# Altium integrated library TI Amplifiers and Linear Operational Amplifier High Speed.IntLib: 1100 symbols (part 41 of 44)
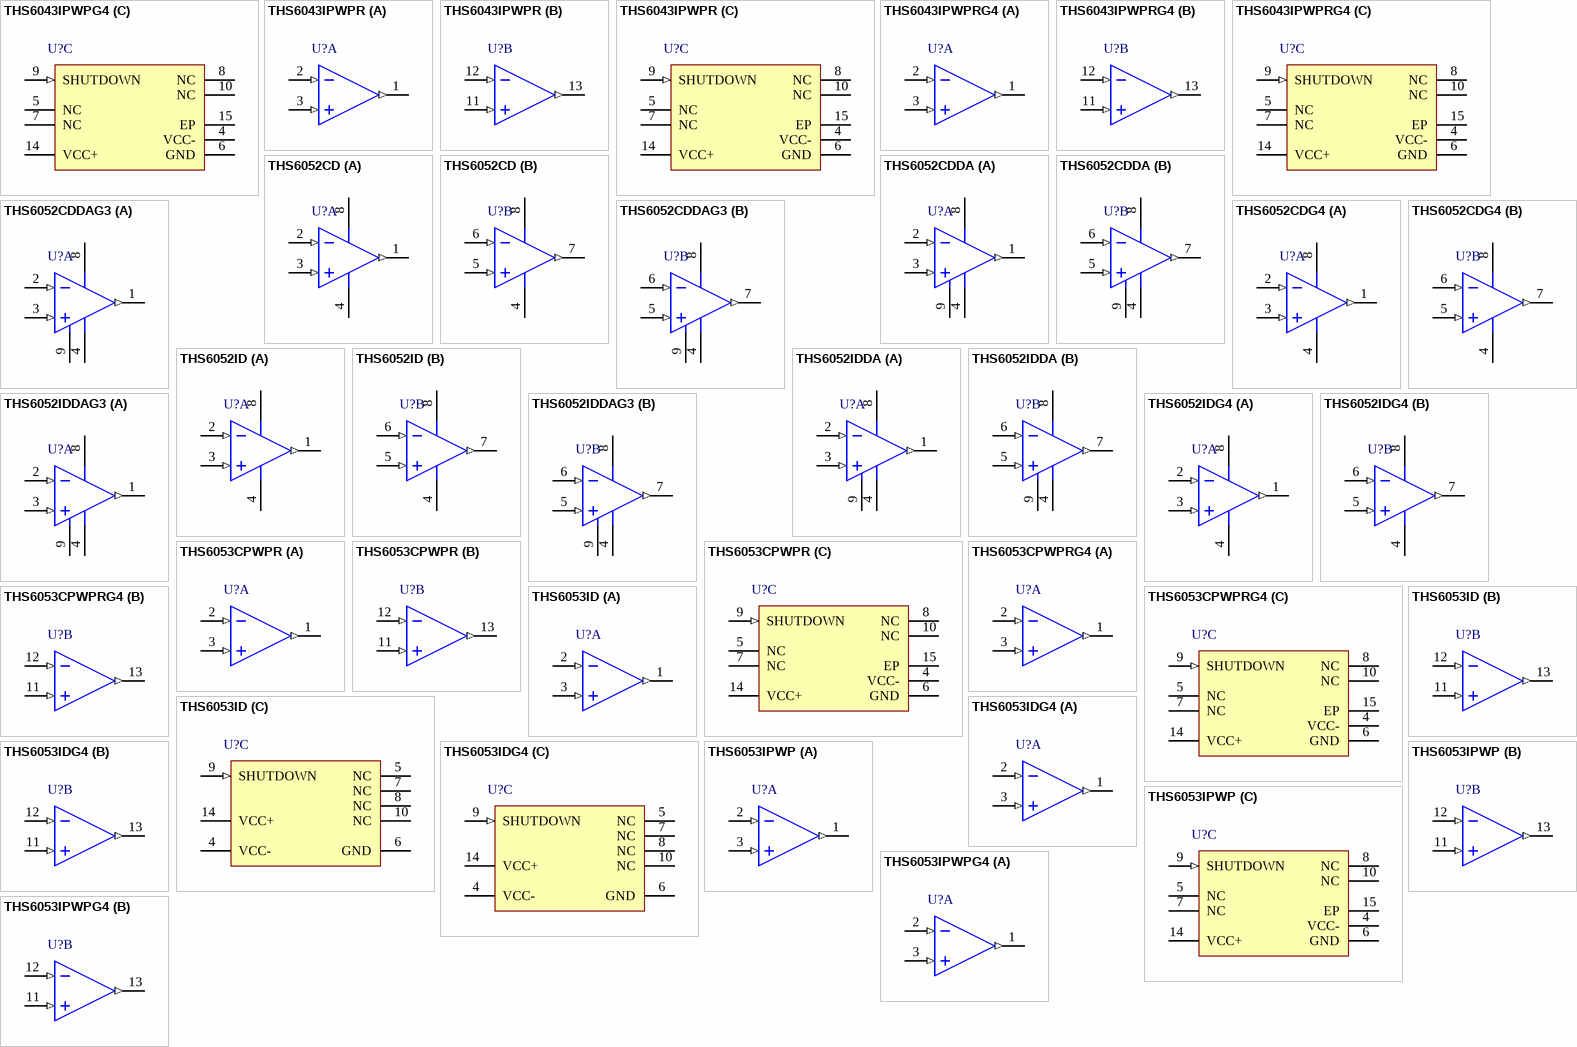
[diagram p91: symbols THS6043IPWPG4 to THS6053IPWPG4]

## THS6053ID
designator U?
175 mA, +/-12 V ADSL CPE Line Driver with Shutdown, 10 to 30 V, -40 to 85 degC, 14-pin SOIC (D14), Green (RoHS & no Sb/Br); Manufacturer: Texas Instruments; PartNumber: THS6053ID; Acl, min stable gain(V/V): 1; BW @ Acl(MHz): 170; Iib(Max)(nA): 12000; Io(Typ)(mA): 175; Number of Channels: 2; Slew Rate(Typ)(V/us): 1200; Sub Family: High Output Current Amplifier (>=50mA), High Speed Amplifier (>=50MHz), High Supply Voltage Amplifier (>=30V); THD (Fc is 1 MHz)(Typ)(dB): -85; Vio(Max)(mV): 15; Vn at Flatband(Typ)(nV/rtHz): 2.1; Vs(Max)(V): 30; Vs(Min)(V): 10; DatasheetVersion: SLOS293D; PackageVersion: 4040047-5/M, 06/2011; PackageReference: D14; PackageDescription: 14-Pin Plastic Small Outline, Body 8.65 x 3.9 mm, Pitch 1.27 mm; Supplier 1: Digi-Key; Supplier Part Number 1: 296-12318-5-ND; Supplier 2: Mouser; Supplier Part Number 2: 595-THS6053ID; Eco-Plan: Green (RoHS & no Sb/Br); Mounting Technology: Surface Mount; Code_JEDEC: MS-012; ComponentLink1Description: Manufacturer URL; ComponentLink1URL: http://www.ti.com/; ComponentLink2Description: Datasheet; ComponentLink2URL: http://www.ti.com/general/docs/lit/getliterature.tsp?genericPartNumber=THS6053&fileType=pdf; ComponentLink3Description: Package Specification; ComponentLink3URL: http://www.ti.com/lit/ml/mpds177g/mpds177g.pdf
footprint TI-D14_N (SOIC, 14-Leads, Body 8.65x3.9mm, Pitch 1.27mm, IPC Medium Density)
footprint TI-D14_L (SOIC, 14-Leads, Body 8.65x3.9mm, Pitch 1.27mm, IPC High Density)
footprint TI-D14_M (SOIC, 14-Leads, Body 8.65x3.9mm, Pitch 1.27mm, IPC Low Density)
part A pins: 1 OUT D1 (out), 2 IN D1- (in), 3 IN D1+ (in)
part B pins: 11 IN D2+ (in), 12 IN D2- (in), 13 OUT D2 (out)
part C pins: 4 VCC- (power), 5 NC, 6 GND (power), 7 NC, 8 NC, 9 SHUTDOWN (in), 10 NC, 14 VCC+ (power)

## THS6053IDG4
designator U?
175 mA, +/-12 V ADSL CPE Line Driver with Shutdown, 10 to 30 V, -40 to 85 degC, 14-pin SOIC (D14), Green (RoHS & no Sb/Br); Manufacturer: Texas Instruments; PartNumber: THS6053IDG4; Acl, min stable gain(V/V): 1; BW @ Acl(MHz): 170; Iib(Max)(nA): 12000; Io(Typ)(mA): 175; Number of Channels: 2; Slew Rate(Typ)(V/us): 1200; Sub Family: High Output Current Amplifier (>=50mA), High Speed Amplifier (>=50MHz), High Supply Voltage Amplifier (>=30V); THD (Fc is 1 MHz)(Typ)(dB): -85; Vio(Max)(mV): 15; Vn at Flatband(Typ)(nV/rtHz): 2.1; Vs(Max)(V): 30; Vs(Min)(V): 10; DatasheetVersion: SLOS293D; PackageVersion: 4040047-5/M, 06/2011; PackageReference: D14; PackageDescription: 14-Pin Plastic Small Outline, Body 8.65 x 3.9 mm, Pitch 1.27 mm; Supplier 1: Digi-Key; Supplier Part Number 1: THS6053IDG4-ND; Supplier 2: Mouser; Supplier Part Number 2: 595-THS6053IDG4; Eco-Plan: Green (RoHS & no Sb/Br); Mounting Technology: Surface Mount; Code_JEDEC: MS-012; ComponentLink1Description: Manufacturer URL; ComponentLink1URL: http://www.ti.com/; ComponentLink2Description: Datasheet; ComponentLink2URL: http://www.ti.com/general/docs/lit/getliterature.tsp?genericPartNumber=THS6053&fileType=pdf; ComponentLink3Description: Package Specification; ComponentLink3URL: http://www.ti.com/lit/ml/mpds177g/mpds177g.pdf
footprint TI-D14_N (SOIC, 14-Leads, Body 8.65x3.9mm, Pitch 1.27mm, IPC Medium Density)
footprint TI-D14_L (SOIC, 14-Leads, Body 8.65x3.9mm, Pitch 1.27mm, IPC High Density)
footprint TI-D14_M (SOIC, 14-Leads, Body 8.65x3.9mm, Pitch 1.27mm, IPC Low Density)
part A pins: 1 OUT D1 (out), 2 IN D1- (in), 3 IN D1+ (in)
part B pins: 11 IN D2+ (in), 12 IN D2- (in), 13 OUT D2 (out)
part C pins: 4 VCC- (power), 5 NC, 6 GND (power), 7 NC, 8 NC, 9 SHUTDOWN (in), 10 NC, 14 VCC+ (power)

## THS6053IPWP
designator U?
175 mA, +/-12 V ADSL CPE Line Driver with Shutdown, 10 to 30 V, -40 to 85 degC, 14-pin SOP (PWP14), Green (RoHS & no Sb/Br); Manufacturer: Texas Instruments; PartNumber: THS6053IPWP; Acl, min stable gain(V/V): 1; BW @ Acl(MHz): 170; Iib(Max)(nA): 12000; Io(Typ)(mA): 175; Number of Channels: 2; Slew Rate(Typ)(V/us): 1200; Sub Family: High Output Current Amplifier (>=50mA), High Speed Amplifier (>=50MHz), High Supply Voltage Amplifier (>=30V); THD (Fc is 1 MHz)(Typ)(dB): -85; Vio(Max)(mV): 15; Vn at Flatband(Typ)(nV/rtHz): 2.1; Vs(Max)(V): 30; Vs(Min)(V): 10; DatasheetVersion: SLOS293D; PackageVersion: 4073225-2/I, 05/2011; PackageReference: PWP14-1830X2055TP; PackageDescription: 14-Pin Plastic Small Outline, Body 4.4 x 5 mm, Pitch 0.65 mm; Supplier 1: Digi-Key; Supplier Part Number 1: 296-11985-5-ND; Supplier 2: Mouser; Supplier Part Number 2: 595-THS6053IPWP; Eco-Plan: Green (RoHS & no Sb/Br); Mounting Technology: Surface Mount; Code_JEDEC: MO-153; ComponentLink1Description: Manufacturer URL; ComponentLink1URL: http://www.ti.com/; ComponentLink2Description: Datasheet; ComponentLink2URL: http://www.ti.com/general/docs/lit/getliterature.tsp?genericPartNumber=THS6053&fileType=pdf; ComponentLink3Description: Package Specification; ComponentLink3URL: http://www.ti.com/litv/pdf/mpds373
footprint TI-PWP14-1830X2055TP_N (SOP, 14-Leads, Body 5x4.4mm, Pitch 0.65mm, Thermal Pad 1.830x2.055mm, IPC Medium Density)
footprint TI-PWP14-1830X2055TP_L (SOP, 14-Leads, Body 5x4.4mm, Pitch 0.65mm, Thermal Pad 1.830x2.055mm, IPC High Density)
footprint TI-PWP14-1830X2055TP_M (SOP, 14-Leads, Body 5x4.4mm, Pitch 0.65mm, Thermal Pad 1.830x2.055mm, IPC Low Density)
part A pins: 1 OUT D1 (out), 2 IN D1- (in), 3 IN D1+ (in)
part B pins: 11 IN D2+ (in), 12 IN D2- (in), 13 OUT D2 (out)
part C pins: 4 VCC- (power), 5 NC, 6 GND (power), 7 NC, 8 NC, 9 SHUTDOWN (in), 10 NC, 14 VCC+ (power), 15 EP

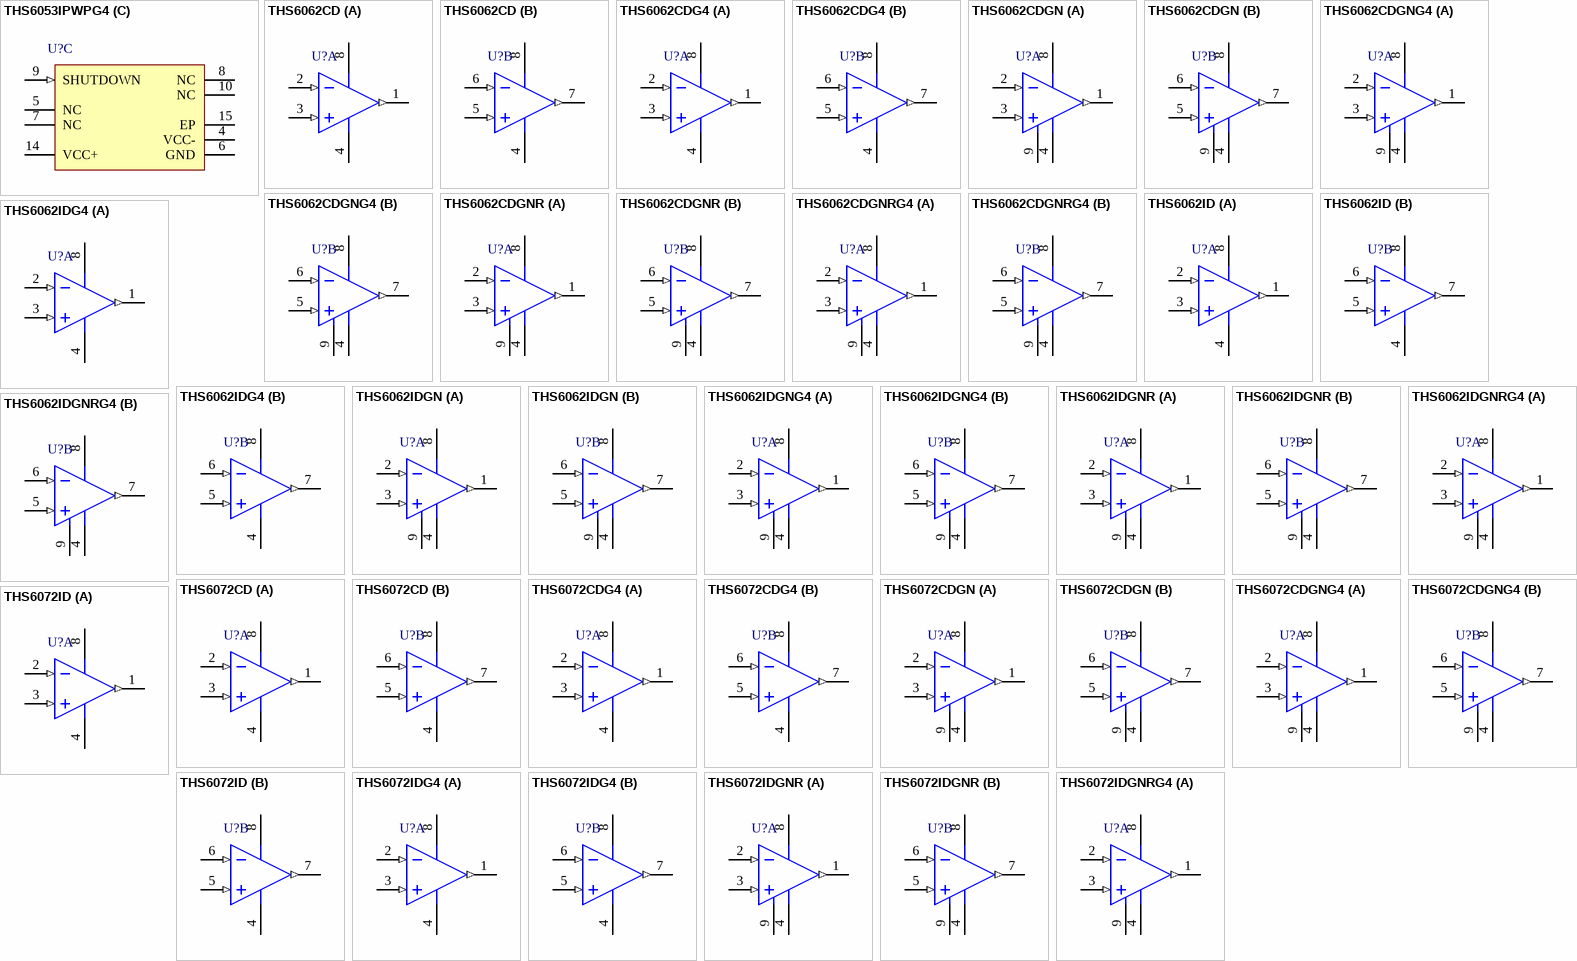
[diagram p48: symbols THS6053IPWPG4 to THS6072IDGNRG4]

## THS6053IPWPG4
designator U?
175 mA, +/-12 V ADSL CPE Line Driver with Shutdown, 10 to 30 V, -40 to 85 degC, 14-pin SOP (PWP14), Green (RoHS & no Sb/Br); Manufacturer: Texas Instruments; PartNumber: THS6053IPWPG4; Acl, min stable gain(V/V): 1; BW @ Acl(MHz): 170; Iib(Max)(nA): 12000; Io(Typ)(mA): 175; Number of Channels: 2; Slew Rate(Typ)(V/us): 1500; Sub Family: High Output Current Amplifier (>=50mA), High Speed Amplifier (>=50MHz), High Supply Voltage Amplifier (>=30V); THD (Fc is 1 MHz)(Typ)(dB): -83; Vio(Max)(mV): 15; Vn at Flatband(Typ)(nV/rtHz): 2.1; Vs(Max)(V): 30; Vs(Min)(V): 10; DatasheetVersion: SLOS293D; PackageVersion: 4073225-2/I, 05/2011; PackageReference: PWP14-1830X2055TP; PackageDescription: 14-Pin Plastic Small Outline, Body 4.4 x 5 mm, Pitch 0.65 mm; Supplier 1: Digi-Key; Supplier Part Number 1: THS6053IPWPG4-ND; Supplier 2: Mouser; Supplier Part Number 2: 595-THS6053IPWPG4; Eco-Plan: Green (RoHS & no Sb/Br); Mounting Technology: Surface Mount; Code_JEDEC: MO-153; ComponentLink1Description: Manufacturer URL; ComponentLink1URL: http://www.ti.com/; ComponentLink2Description: Datasheet; ComponentLink2URL: http://www.ti.com/general/docs/lit/getliterature.tsp?genericPartNumber=THS6053&fileType=pdf; ComponentLink3Description: Package Specification; ComponentLink3URL: http://www.ti.com/litv/pdf/mpds373
footprint TI-PWP14-1830X2055TP_N (SOP, 14-Leads, Body 5x4.4mm, Pitch 0.65mm, Thermal Pad 1.830x2.055mm, IPC Medium Density)
footprint TI-PWP14-1830X2055TP_L (SOP, 14-Leads, Body 5x4.4mm, Pitch 0.65mm, Thermal Pad 1.830x2.055mm, IPC High Density)
footprint TI-PWP14-1830X2055TP_M (SOP, 14-Leads, Body 5x4.4mm, Pitch 0.65mm, Thermal Pad 1.830x2.055mm, IPC Low Density)
part A pins: 1 OUT D1 (out), 2 IN D1- (in), 3 IN D1+ (in)
part B pins: 11 IN D2+ (in), 12 IN D2- (in), 13 OUT D2 (out)
part C pins: 4 VCC- (power), 5 NC, 6 GND (power), 7 NC, 8 NC, 9 SHUTDOWN (in), 10 NC, 14 VCC+ (power), 15 EP

## THS6062CD
designator U?
Low-Noise ADSL Dual Differential Receiver, 5 to 32 V, 0 to 70 degC, 8-pin SOIC (D8), Green (RoHS & no Sb/Br); Manufacturer: Texas Instruments; PartNumber: THS6062CD; 2nd Harmonic(dBc): 72; 3rd Harmonic(dBc): 101; @ MHz: 1; BW @ Acl(MHz): 100; Iib(Max)(nA): 8000; Io(Typ)(mA): 90; Iq per channel(Max)(mA): 11; Number of Channels: 2; Settling Time (0.1%)(Typ)(ns): 60; Sub Family: High Output Current Amplifier (>=50mA), High Speed Amplifier (>=50MHz), High Supply Voltage Amplifier (>=30V); THD (Fc is 1 MHz)(Typ)(dB): -72; Vio(Max)(mV): 6; Vn at Flatband(Typ)(nV/rtHz): 1.6; Vs(Max)(V): 32; Vs(Min)(V): 5; DatasheetVersion: SLOS228D; PackageVersion: 4040047-3/M, 06/2011; PackageReference: D8; PackageDescription: 8-Pin Plastic Small Outline, Body 4.9 x 3.9 mm, Pitch 1.27 mm; Supplier 1: Digi-Key; Supplier Part Number 1: 296-2374-5-ND; Supplier 2: Newark; Supplier Part Number 2: 76C6564; Supplier 3: Mouser; Supplier Part Number 3: 595-THS6062CD; Acl, min stable gain(V/V): 1; Eco-Plan: Green (RoHS & no Sb/Br); Slew Rate(Typ)(V/us): 100; Mounting Technology: Surface Mount; Code_JEDEC: MS-012; ComponentLink1Description: Manufacturer URL; ComponentLink1URL: http://www.ti.com/; ComponentLink2Description: Datasheet; ComponentLink2URL: http://www.ti.com/general/docs/lit/getliterature.tsp?genericPartNumber=THS6062&fileType=pdf; ComponentLink3Description: Package Specification; ComponentLink3URL: http://www.ti.com/litv/pdf/msoi002j
footprint TI-D8_N (SOIC, 8-Leads, Body 4.9x3.9mm, Pitch 1.27mm, IPC Medium Density)
footprint TI-D8_L (SOIC, 8-Leads, Body 4.9x3.9mm, Pitch 1.27mm, IPC High Density)
footprint TI-D8_M (SOIC, 8-Leads, Body 4.9x3.9mm, Pitch 1.27mm, IPC Low Density)
pins on every part: 4 VCC- (power), 8 VCC+ (power)
part A pins: 1 OUT1 (out), 2 IN1- (in), 3 IN1+ (in)
part B pins: 5 IN2+ (in), 6 IN2- (in), 7 OUT2 (out)

## THS6062CDG4
designator U?
Low-Noise ADSL Dual Differential Receiver, 5 to 32 V, 0 to 70 degC, 8-pin SOIC (D8), Green (RoHS & no Sb/Br); Manufacturer: Texas Instruments; PartNumber: THS6062CDG4; 2nd Harmonic(dBc): 72; 3rd Harmonic(dBc): 101; @ MHz: 1; BW @ Acl(MHz): 100; Iib(Max)(nA): 8000; Io(Typ)(mA): 90; Iq per channel(Max)(mA): 11; Number of Channels: 2; Settling Time (0.1%)(Typ)(ns): 60; Sub Family: High Output Current Amplifier (>=50mA), High Speed Amplifier (>=50MHz), High Supply Voltage Amplifier (>=30V); THD (Fc is 1 MHz)(Typ)(dB): -72; Vio(Max)(mV): 6; Vn at Flatband(Typ)(nV/rtHz): 1.6; Vs(Max)(V): 32; Vs(Min)(V): 5; DatasheetVersion: SLOS228D; PackageVersion: 4040047-3/M, 06/2011; PackageReference: D8; PackageDescription: 8-Pin Plastic Small Outline, Body 4.9 x 3.9 mm, Pitch 1.27 mm; Supplier 1: Digi-Key; Supplier Part Number 1: THS6062CDG4-ND; Supplier 2: Mouser; Supplier Part Number 2: 595-THS6062CDG4; Acl, min stable gain(V/V): 1; Eco-Plan: Green (RoHS & no Sb/Br); Slew Rate(Typ)(V/us): 100; Mounting Technology: Surface Mount; Code_JEDEC: MS-012; ComponentLink1Description: Manufacturer URL; ComponentLink1URL: http://www.ti.com/; ComponentLink2Description: Datasheet; ComponentLink2URL: http://www.ti.com/general/docs/lit/getliterature.tsp?genericPartNumber=THS6062&fileType=pdf; ComponentLink3Description: Package Specification; ComponentLink3URL: http://www.ti.com/litv/pdf/msoi002j
footprint TI-D8_N (SOIC, 8-Leads, Body 4.9x3.9mm, Pitch 1.27mm, IPC Medium Density)
footprint TI-D8_L (SOIC, 8-Leads, Body 4.9x3.9mm, Pitch 1.27mm, IPC High Density)
footprint TI-D8_M (SOIC, 8-Leads, Body 4.9x3.9mm, Pitch 1.27mm, IPC Low Density)
pins on every part: 4 VCC- (power), 8 VCC+ (power)
part A pins: 1 OUT1 (out), 2 IN1- (in), 3 IN1+ (in)
part B pins: 5 IN2+ (in), 6 IN2- (in), 7 OUT2 (out)

## THS6062CDGN
designator U?
Low-Noise ADSL Dual Differential Receiver, 5 to 32 V, 0 to 70 degC, 8-pin SOIC (DGN8), Green (RoHS & no Sb/Br); Manufacturer: Texas Instruments; PartNumber: THS6062CDGN; 2nd Harmonic(dBc): 72; 3rd Harmonic(dBc): 101; @ MHz: 1; BW @ Acl(MHz): 100; Iib(Max)(nA): 8000; Io(Typ)(mA): 90; Iq per channel(Max)(mA): 11; Number of Channels: 2; Settling Time (0.1%)(Typ)(ns): 60; Sub Family: High Output Current Amplifier (>=50mA), High Speed Amplifier (>=50MHz), High Supply Voltage Amplifier (>=30V); THD (Fc is 1 MHz)(Typ)(dB): -72; Vio(Max)(mV): 6; Vn at Flatband(Typ)(nV/rtHz): 1.6; Vs(Max)(V): 32; Vs(Min)(V): 5; DatasheetVersion: SLOS228D; PackageVersion: 4073271/F, 05/2011; PackageReference: DGN8-1760X1425TP; PackageDescription: 8-pin Plastic Small Outline, Body 3 x 3 mm, Pitch 0.65 mm; Supplier 1: Digi-Key; Supplier Part Number 1: 296-10068-5-ND; Supplier 2: Mouser; Supplier Part Number 2: 595-THS6062CDGN; Acl, min stable gain(V/V): 1; Eco-Plan: Green (RoHS & no Sb/Br); Slew Rate(Typ)(V/us): 100; Mounting Technology: Surface Mount; Code_JEDEC: MO-187; ComponentLink1Description: Manufacturer URL; ComponentLink1URL: http://www.ti.com/; ComponentLink2Description: Datasheet; ComponentLink2URL: http://www.ti.com/general/docs/lit/getliterature.tsp?genericPartNumber=THS6062&fileType=pdf; ComponentLink3Description: Package Specification; ComponentLink3URL: http://www.ti.com/litv/pdf/mpds046e
footprint TI-DGN8-1760X1425TP_N (SOP, 8-Leads, Body 3x3mm, Pitch 0.65mm, Thermal Pad 1.76x1.425mm, IPC Medium Density)
footprint TI-DGN8-1760X1425TP_L (SOP, 8-Leads, Body 3x3mm, Pitch 0.65mm, Thermal Pad 1.76x1.425mm, IPC High Density)
footprint TI-DGN8-1760X1425TP_M (SOP, 8-Leads, Body 3x3mm, Pitch 0.65mm, Thermal Pad 1.76 x 1.425 mm, IPC Low Density)
pins on every part: 4 VCC- (power), 8 VCC+ (power), 9 EP
part A pins: 1 OUT1 (out), 2 IN1- (in), 3 IN1+ (in)
part B pins: 5 IN2+ (in), 6 IN2- (in), 7 OUT2 (out)

## THS6062CDGNG4
designator U?
Low-Noise ADSL Dual Differential Receiver, 5 to 32 V, 0 to 70 degC, 8-pin SOIC (DGN8), Green (RoHS & no Sb/Br); Manufacturer: Texas Instruments; PartNumber: THS6062CDGNG4; 2nd Harmonic(dBc): 72; 3rd Harmonic(dBc): 101; @ MHz: 1; BW @ Acl(MHz): 100; Iib(Max)(nA): 8000; Io(Typ)(mA): 90; Iq per channel(Max)(mA): 11; Number of Channels: 2; Settling Time (0.1%)(Typ)(ns): 60; Sub Family: High Output Current Amplifier (>=50mA), High Speed Amplifier (>=50MHz), High Supply Voltage Amplifier (>=30V); THD (Fc is 1 MHz)(Typ)(dB): -72; Vio(Max)(mV): 6; Vn at Flatband(Typ)(nV/rtHz): 1.6; Vs(Max)(V): 32; Vs(Min)(V): 5; DatasheetVersion: SLOS228D; PackageVersion: 4073271/F, 05/2011; PackageReference: DGN8-1760X1425TP; PackageDescription: 8-pin Plastic Small Outline, Body 3 x 3 mm, Pitch 0.65 mm; Supplier 1: Digi-Key; Supplier Part Number 1: THS6062CDGNG4-ND; Supplier 2: Mouser; Supplier Part Number 2: 595-THS6062CDGNG4; Acl, min stable gain(V/V): 1; Eco-Plan: Green (RoHS & no Sb/Br); Slew Rate(Typ)(V/us): 100; Mounting Technology: Surface Mount; Code_JEDEC: MO-187; ComponentLink1Description: Manufacturer URL; ComponentLink1URL: http://www.ti.com/; ComponentLink2Description: Datasheet; ComponentLink2URL: http://www.ti.com/general/docs/lit/getliterature.tsp?genericPartNumber=THS6062&fileType=pdf; ComponentLink3Description: Package Specification; ComponentLink3URL: http://www.ti.com/litv/pdf/mpds046e
footprint TI-DGN8-1760X1425TP_N (SOP, 8-Leads, Body 3x3mm, Pitch 0.65mm, Thermal Pad 1.76x1.425mm, IPC Medium Density)
footprint TI-DGN8-1760X1425TP_L (SOP, 8-Leads, Body 3x3mm, Pitch 0.65mm, Thermal Pad 1.76x1.425mm, IPC High Density)
footprint TI-DGN8-1760X1425TP_M (SOP, 8-Leads, Body 3x3mm, Pitch 0.65mm, Thermal Pad 1.76 x 1.425 mm, IPC Low Density)
pins on every part: 4 VCC- (power), 8 VCC+ (power), 9 EP
part A pins: 1 OUT1 (out), 2 IN1- (in), 3 IN1+ (in)
part B pins: 5 IN2+ (in), 6 IN2- (in), 7 OUT2 (out)

## THS6062CDGNR
designator U?
Low-Noise ADSL Dual Differential Receiver, 5 to 32 V, 0 to 70 degC, 8-pin SOIC (DGN8), Green (RoHS & no Sb/Br); Manufacturer: Texas Instruments; PartNumber: THS6062CDGNR; 2nd Harmonic(dBc): 72; 3rd Harmonic(dBc): 101; @ MHz: 1; BW @ Acl(MHz): 100; Iib(Max)(nA): 8000; Io(Typ)(mA): 90; Iq per channel(Max)(mA): 11; Number of Channels: 2; Settling Time (0.1%)(Typ)(ns): 60; Sub Family: High Output Current Amplifier (>=50mA), High Speed Amplifier (>=50MHz), High Supply Voltage Amplifier (>=30V); THD (Fc is 1 MHz)(Typ)(dB): -72; Vio(Max)(mV): 6; Vn at Flatband(Typ)(nV/rtHz): 1.6; Vs(Max)(V): 32; Vs(Min)(V): 5; DatasheetVersion: SLOS228D; PackageVersion: 4073271/F, 05/2011; PackageReference: DGN8-1760X1425TP; PackageDescription: 8-pin Plastic Small Outline, Body 3 x 3 mm, Pitch 0.65 mm; Supplier 1: Digi-Key; Supplier Part Number 1: 296-10068-2-ND; Supplier 2: Digi-Key; Supplier Part Number 2: 296-10068-1-ND; Supplier 3: Digi-Key; Supplier Part Number 3: 296-10068-6-ND; Supplier 4: Mouser; Supplier Part Number 4: 595-THS6062CDGNR; Acl, min stable gain(V/V): 1; Eco-Plan: Green (RoHS & no Sb/Br); Slew Rate(Typ)(V/us): 100; Mounting Technology: Surface Mount; Code_JEDEC: MO-187; ComponentLink1Description: Manufacturer URL; ComponentLink1URL: http://www.ti.com/; ComponentLink2Description: Datasheet; ComponentLink2URL: http://www.ti.com/general/docs/lit/getliterature.tsp?genericPartNumber=THS6062&fileType=pdf; ComponentLink3Description: Package Specification; ComponentLink3URL: http://www.ti.com/litv/pdf/mpds046e
footprint TI-DGN8-1760X1425TP_N (SOP, 8-Leads, Body 3x3mm, Pitch 0.65mm, Thermal Pad 1.76x1.425mm, IPC Medium Density)
footprint TI-DGN8-1760X1425TP_L (SOP, 8-Leads, Body 3x3mm, Pitch 0.65mm, Thermal Pad 1.76x1.425mm, IPC High Density)
footprint TI-DGN8-1760X1425TP_M (SOP, 8-Leads, Body 3x3mm, Pitch 0.65mm, Thermal Pad 1.76 x 1.425 mm, IPC Low Density)
pins on every part: 4 VCC- (power), 8 VCC+ (power), 9 EP
part A pins: 1 OUT1 (out), 2 IN1- (in), 3 IN1+ (in)
part B pins: 5 IN2+ (in), 6 IN2- (in), 7 OUT2 (out)

## THS6062CDGNRG4
designator U?
Low-Noise ADSL Dual Differential Receiver, 5 to 32 V, 0 to 70 degC, 8-pin SOIC (DGN8), Green (RoHS & no Sb/Br); Manufacturer: Texas Instruments; PartNumber: THS6062CDGNRG4; 2nd Harmonic(dBc): 72; 3rd Harmonic(dBc): 101; @ MHz: 1; BW @ Acl(MHz): 100; Iib(Max)(nA): 8000; Io(Typ)(mA): 90; Iq per channel(Max)(mA): 11; Number of Channels: 2; Settling Time (0.1%)(Typ)(ns): 60; Sub Family: High Output Current Amplifier (>=50mA), High Speed Amplifier (>=50MHz), High Supply Voltage Amplifier (>=30V); THD (Fc is 1 MHz)(Typ)(dB): -72; Vio(Max)(mV): 6; Vn at Flatband(Typ)(nV/rtHz): 1.6; Vs(Max)(V): 32; Vs(Min)(V): 5; DatasheetVersion: SLOS228D; PackageVersion: 4073271/F, 05/2011; PackageReference: DGN8-1760X1425TP; PackageDescription: 8-pin Plastic Small Outline, Body 3 x 3 mm, Pitch 0.65 mm; Supplier 1: Digi-Key; Supplier Part Number 1: THS6062CDGNRG4-ND; Supplier 2: Mouser; Supplier Part Number 2: 595-THS6062CDGNRG4; Acl, min stable gain(V/V): 1; Eco-Plan: Green (RoHS & no Sb/Br); Slew Rate(Typ)(V/us): 100; Mounting Technology: Surface Mount; Code_JEDEC: MO-187; ComponentLink1Description: Manufacturer URL; ComponentLink1URL: http://www.ti.com/; ComponentLink2Description: Datasheet; ComponentLink2URL: http://www.ti.com/general/docs/lit/getliterature.tsp?genericPartNumber=THS6062&fileType=pdf; ComponentLink3Description: Package Specification; ComponentLink3URL: http://www.ti.com/litv/pdf/mpds046e
footprint TI-DGN8-1760X1425TP_N (SOP, 8-Leads, Body 3x3mm, Pitch 0.65mm, Thermal Pad 1.76x1.425mm, IPC Medium Density)
footprint TI-DGN8-1760X1425TP_L (SOP, 8-Leads, Body 3x3mm, Pitch 0.65mm, Thermal Pad 1.76x1.425mm, IPC High Density)
footprint TI-DGN8-1760X1425TP_M (SOP, 8-Leads, Body 3x3mm, Pitch 0.65mm, Thermal Pad 1.76 x 1.425 mm, IPC Low Density)
pins on every part: 4 VCC- (power), 8 VCC+ (power), 9 EP
part A pins: 1 OUT1 (out), 2 IN1- (in), 3 IN1+ (in)
part B pins: 5 IN2+ (in), 6 IN2- (in), 7 OUT2 (out)

## THS6062ID
designator U?
Low-Noise ADSL Dual Differential Receiver, 5 to 32 V, -40 to 85 degC, 8-pin SOIC (D8), Green (RoHS & no Sb/Br); Manufacturer: Texas Instruments; PartNumber: THS6062ID; 2nd Harmonic(dBc): 72; 3rd Harmonic(dBc): 101; @ MHz: 1; BW @ Acl(MHz): 100; Iib(Max)(nA): 8000; Io(Typ)(mA): 90; Iq per channel(Max)(mA): 11; Number of Channels: 2; Settling Time (0.1%)(Typ)(ns): 60; Sub Family: High Output Current Amplifier (>=50mA), High Speed Amplifier (>=50MHz), High Supply Voltage Amplifier (>=30V); THD (Fc is 1 MHz)(Typ)(dB): -72; Vio(Max)(mV): 6; Vn at Flatband(Typ)(nV/rtHz): 1.6; Vs(Max)(V): 32; Vs(Min)(V): 5; DatasheetVersion: SLOS228D; PackageVersion: 4040047-3/M, 06/2011; PackageReference: D8; PackageDescription: 8-Pin Plastic Small Outline, Body 4.9 x 3.9 mm, Pitch 1.27 mm; Supplier 1: Digi-Key; Supplier Part Number 1: 296-10070-5-ND; Supplier 2: Newark; Supplier Part Number 2: 76C6569; Supplier 3: Mouser; Supplier Part Number 3: 595-THS6062ID; Acl, min stable gain(V/V): 1; Eco-Plan: Green (RoHS & no Sb/Br); Slew Rate(Typ)(V/us): 100; Mounting Technology: Surface Mount; Code_JEDEC: MS-012; ComponentLink1Description: Manufacturer URL; ComponentLink1URL: http://www.ti.com/; ComponentLink2Description: Datasheet; ComponentLink2URL: http://www.ti.com/general/docs/lit/getliterature.tsp?genericPartNumber=THS6062&fileType=pdf; ComponentLink3Description: Package Specification; ComponentLink3URL: http://www.ti.com/litv/pdf/msoi002j
footprint TI-D8_N (SOIC, 8-Leads, Body 4.9x3.9mm, Pitch 1.27mm, IPC Medium Density)
footprint TI-D8_L (SOIC, 8-Leads, Body 4.9x3.9mm, Pitch 1.27mm, IPC High Density)
footprint TI-D8_M (SOIC, 8-Leads, Body 4.9x3.9mm, Pitch 1.27mm, IPC Low Density)
pins on every part: 4 VCC- (power), 8 VCC+ (power)
part A pins: 1 OUT1 (out), 2 IN1- (in), 3 IN1+ (in)
part B pins: 5 IN2+ (in), 6 IN2- (in), 7 OUT2 (out)

## THS6062IDG4
designator U?
Low-Noise ADSL Dual Differential Receiver, 5 to 32 V, -40 to 85 degC, 8-pin SOIC (D8), Green (RoHS & no Sb/Br); Manufacturer: Texas Instruments; PartNumber: THS6062IDG4; 2nd Harmonic(dBc): 72; 3rd Harmonic(dBc): 101; @ MHz: 1; BW @ Acl(MHz): 100; Iib(Max)(nA): 8000; Io(Typ)(mA): 90; Iq per channel(Max)(mA): 11; Number of Channels: 2; Settling Time (0.1%)(Typ)(ns): 60; Sub Family: High Output Current Amplifier (>=50mA), High Speed Amplifier (>=50MHz), High Supply Voltage Amplifier (>=30V); THD (Fc is 1 MHz)(Typ)(dB): -72; Vio(Max)(mV): 6; Vn at Flatband(Typ)(nV/rtHz): 1.6; Vs(Max)(V): 32; Vs(Min)(V): 5; DatasheetVersion: SLOS228D; PackageVersion: 4040047-3/M, 06/2011; PackageReference: D8; PackageDescription: 8-Pin Plastic Small Outline, Body 4.9 x 3.9 mm, Pitch 1.27 mm; Supplier 1: Digi-Key; Supplier Part Number 1: THS6062IDG4-ND; Supplier 2: Mouser; Supplier Part Number 2: 595-THS6062IDG4; Acl, min stable gain(V/V): 1; Eco-Plan: Green (RoHS & no Sb/Br); Slew Rate(Typ)(V/us): 100; Mounting Technology: Surface Mount; Code_JEDEC: MS-012; ComponentLink1Description: Manufacturer URL; ComponentLink1URL: http://www.ti.com/; ComponentLink2Description: Datasheet; ComponentLink2URL: http://www.ti.com/general/docs/lit/getliterature.tsp?genericPartNumber=THS6062&fileType=pdf; ComponentLink3Description: Package Specification; ComponentLink3URL: http://www.ti.com/litv/pdf/msoi002j
footprint TI-D8_N (SOIC, 8-Leads, Body 4.9x3.9mm, Pitch 1.27mm, IPC Medium Density)
footprint TI-D8_L (SOIC, 8-Leads, Body 4.9x3.9mm, Pitch 1.27mm, IPC High Density)
footprint TI-D8_M (SOIC, 8-Leads, Body 4.9x3.9mm, Pitch 1.27mm, IPC Low Density)
pins on every part: 4 VCC- (power), 8 VCC+ (power)
part A pins: 1 OUT1 (out), 2 IN1- (in), 3 IN1+ (in)
part B pins: 5 IN2+ (in), 6 IN2- (in), 7 OUT2 (out)

## THS6062IDGN
designator U?
Low-Noise ADSL Dual Differential Receiver, 5 to 32 V, -40 to 85 degC, 8-pin SOIC (DGN8), Green (RoHS & no Sb/Br); Manufacturer: Texas Instruments; PartNumber: THS6062IDGN; 2nd Harmonic(dBc): 72; 3rd Harmonic(dBc): 101; @ MHz: 1; BW @ Acl(MHz): 100; Iib(Max)(nA): 8000; Io(Typ)(mA): 90; Iq per channel(Max)(mA): 11; Number of Channels: 2; Settling Time (0.1%)(Typ)(ns): 60; Sub Family: High Output Current Amplifier (>=50mA), High Speed Amplifier (>=50MHz), High Supply Voltage Amplifier (>=30V); THD (Fc is 1 MHz)(Typ)(dB): -72; Vio(Max)(mV): 6; Vn at Flatband(Typ)(nV/rtHz): 1.6; Vs(Max)(V): 32; Vs(Min)(V): 5; DatasheetVersion: SLOS228D; PackageVersion: 4073271/F, 05/2011; PackageReference: DGN8-1760X1425TP; PackageDescription: 8-pin Plastic Small Outline, Body 3 x 3 mm, Pitch 0.65 mm; Supplier 1: Digi-Key; Supplier Part Number 1: 296-10072-5-ND; Supplier 2: Newark; Supplier Part Number 2: 76C6570; Supplier 3: Mouser; Supplier Part Number 3: 595-THS6062IDGN; Acl, min stable gain(V/V): 1; Eco-Plan: Green (RoHS & no Sb/Br); Slew Rate(Typ)(V/us): 100; Mounting Technology: Surface Mount; Code_JEDEC: MO-187; ComponentLink1Description: Manufacturer URL; ComponentLink1URL: http://www.ti.com/; ComponentLink2Description: Datasheet; ComponentLink2URL: http://www.ti.com/general/docs/lit/getliterature.tsp?genericPartNumber=THS6062&fileType=pdf; ComponentLink3Description: Package Specification; ComponentLink3URL: http://www.ti.com/litv/pdf/mpds046e
footprint TI-DGN8-1760X1425TP_N (SOP, 8-Leads, Body 3x3mm, Pitch 0.65mm, Thermal Pad 1.76x1.425mm, IPC Medium Density)
footprint TI-DGN8-1760X1425TP_L (SOP, 8-Leads, Body 3x3mm, Pitch 0.65mm, Thermal Pad 1.76x1.425mm, IPC High Density)
footprint TI-DGN8-1760X1425TP_M (SOP, 8-Leads, Body 3x3mm, Pitch 0.65mm, Thermal Pad 1.76 x 1.425 mm, IPC Low Density)
pins on every part: 4 VCC- (power), 8 VCC+ (power), 9 EP
part A pins: 1 OUT1 (out), 2 IN1- (in), 3 IN1+ (in)
part B pins: 5 IN2+ (in), 6 IN2- (in), 7 OUT2 (out)

## THS6062IDGNG4
designator U?
Low-Noise ADSL Dual Differential Receiver, 5 to 32 V, -40 to 85 degC, 8-pin SOIC (DGN8), Green (RoHS & no Sb/Br); Manufacturer: Texas Instruments; PartNumber: THS6062IDGNG4; 2nd Harmonic(dBc): 72; 3rd Harmonic(dBc): 101; @ MHz: 1; BW @ Acl(MHz): 100; Iib(Max)(nA): 8000; Io(Typ)(mA): 90; Iq per channel(Max)(mA): 11; Number of Channels: 2; Settling Time (0.1%)(Typ)(ns): 60; Sub Family: High Output Current Amplifier (>=50mA), High Speed Amplifier (>=50MHz), High Supply Voltage Amplifier (>=30V); THD (Fc is 1 MHz)(Typ)(dB): -72; Vio(Max)(mV): 6; Vn at Flatband(Typ)(nV/rtHz): 1.6; Vs(Max)(V): 32; Vs(Min)(V): 5; DatasheetVersion: SLOS228D; PackageVersion: 4073271/F, 05/2011; PackageReference: DGN8-1760X1425TP; PackageDescription: 8-pin Plastic Small Outline, Body 3 x 3 mm, Pitch 0.65 mm; Supplier 1: Digi-Key; Supplier Part Number 1: THS6062IDGNG4-ND; Supplier 2: Mouser; Supplier Part Number 2: 595-THS6062IDGNG4; Acl, min stable gain(V/V): 1; Eco-Plan: Green (RoHS & no Sb/Br); Slew Rate(Typ)(V/us): 100; Mounting Technology: Surface Mount; Code_JEDEC: MO-187; ComponentLink1Description: Manufacturer URL; ComponentLink1URL: http://www.ti.com/; ComponentLink2Description: Datasheet; ComponentLink2URL: http://www.ti.com/general/docs/lit/getliterature.tsp?genericPartNumber=THS6062&fileType=pdf; ComponentLink3Description: Package Specification; ComponentLink3URL: http://www.ti.com/litv/pdf/mpds046e
footprint TI-DGN8-1760X1425TP_N (SOP, 8-Leads, Body 3x3mm, Pitch 0.65mm, Thermal Pad 1.76x1.425mm, IPC Medium Density)
footprint TI-DGN8-1760X1425TP_L (SOP, 8-Leads, Body 3x3mm, Pitch 0.65mm, Thermal Pad 1.76x1.425mm, IPC High Density)
footprint TI-DGN8-1760X1425TP_M (SOP, 8-Leads, Body 3x3mm, Pitch 0.65mm, Thermal Pad 1.76 x 1.425 mm, IPC Low Density)
pins on every part: 4 VCC- (power), 8 VCC+ (power), 9 EP
part A pins: 1 OUT1 (out), 2 IN1- (in), 3 IN1+ (in)
part B pins: 5 IN2+ (in), 6 IN2- (in), 7 OUT2 (out)

## THS6062IDGNR
designator U?
Low-Noise ADSL Dual Differential Receiver, 5 to 32 V, -40 to 85 degC, 8-pin SOIC (DGN8), Green (RoHS & no Sb/Br); Manufacturer: Texas Instruments; PartNumber: THS6062IDGNR; 2nd Harmonic(dBc): 72; 3rd Harmonic(dBc): 101; @ MHz: 1; BW @ Acl(MHz): 100; Iib(Max)(nA): 8000; Io(Typ)(mA): 90; Iq per channel(Max)(mA): 11; Number of Channels: 2; Settling Time (0.1%)(Typ)(ns): 60; Sub Family: High Output Current Amplifier (>=50mA), High Speed Amplifier (>=50MHz), High Supply Voltage Amplifier (>=30V); THD (Fc is 1 MHz)(Typ)(dB): -72; Vio(Max)(mV): 6; Vn at Flatband(Typ)(nV/rtHz): 1.6; Vs(Max)(V): 32; Vs(Min)(V): 5; DatasheetVersion: SLOS228D; PackageVersion: 4073271/F, 05/2011; PackageReference: DGN8-1760X1425TP; PackageDescription: 8-pin Plastic Small Outline, Body 3 x 3 mm, Pitch 0.65 mm; Supplier 1: Digi-Key; Supplier Part Number 1: 296-10072-2-ND; Supplier 2: Digi-Key; Supplier Part Number 2: 296-10072-1-ND; Supplier 3: Digi-Key; Supplier Part Number 3: 296-10072-6-ND; Supplier 4: Mouser; Supplier Part Number 4: 595-THS6062IDGNR; Acl, min stable gain(V/V): 1; Eco-Plan: Green (RoHS & no Sb/Br); Slew Rate(Typ)(V/us): 100; Mounting Technology: Surface Mount; Code_JEDEC: MO-187; ComponentLink1Description: Manufacturer URL; ComponentLink1URL: http://www.ti.com/; ComponentLink2Description: Datasheet; ComponentLink2URL: http://www.ti.com/general/docs/lit/getliterature.tsp?genericPartNumber=THS6062&fileType=pdf; ComponentLink3Description: Package Specification; ComponentLink3URL: http://www.ti.com/litv/pdf/mpds046e
footprint TI-DGN8-1760X1425TP_N (SOP, 8-Leads, Body 3x3mm, Pitch 0.65mm, Thermal Pad 1.76x1.425mm, IPC Medium Density)
footprint TI-DGN8-1760X1425TP_L (SOP, 8-Leads, Body 3x3mm, Pitch 0.65mm, Thermal Pad 1.76x1.425mm, IPC High Density)
footprint TI-DGN8-1760X1425TP_M (SOP, 8-Leads, Body 3x3mm, Pitch 0.65mm, Thermal Pad 1.76 x 1.425 mm, IPC Low Density)
pins on every part: 4 VCC- (power), 8 VCC+ (power), 9 EP
part A pins: 1 OUT1 (out), 2 IN1- (in), 3 IN1+ (in)
part B pins: 5 IN2+ (in), 6 IN2- (in), 7 OUT2 (out)

## THS6062IDGNRG4
designator U?
Low-Noise ADSL Dual Differential Receiver, 5 to 32 V, -40 to 85 degC, 8-pin SOIC (DGN8), Green (RoHS & no Sb/Br); Manufacturer: Texas Instruments; PartNumber: THS6062IDGNRG4; 2nd Harmonic(dBc): 72; 3rd Harmonic(dBc): 101; @ MHz: 1; BW @ Acl(MHz): 100; Iib(Max)(nA): 8000; Io(Typ)(mA): 90; Iq per channel(Max)(mA): 11; Number of Channels: 2; Settling Time (0.1%)(Typ)(ns): 60; Sub Family: High Output Current Amplifier (>=50mA), High Speed Amplifier (>=50MHz), High Supply Voltage Amplifier (>=30V); THD (Fc is 1 MHz)(Typ)(dB): -72; Vio(Max)(mV): 6; Vn at Flatband(Typ)(nV/rtHz): 1.6; Vs(Max)(V): 32; Vs(Min)(V): 5; DatasheetVersion: SLOS228D; PackageVersion: 4073271/F, 05/2011; PackageReference: DGN8-1760X1425TP; PackageDescription: 8-pin Plastic Small Outline, Body 3 x 3 mm, Pitch 0.65 mm; Supplier 1: Digi-Key; Supplier Part Number 1: THS6062IDGNRG4-ND; Supplier 2: Mouser; Supplier Part Number 2: 595-THS6062IDGNRG4; Acl, min stable gain(V/V): 1; Eco-Plan: Green (RoHS & no Sb/Br); Slew Rate(Typ)(V/us): 100; Mounting Technology: Surface Mount; Code_JEDEC: MO-187; ComponentLink1Description: Manufacturer URL; ComponentLink1URL: http://www.ti.com/; ComponentLink2Description: Datasheet; ComponentLink2URL: http://www.ti.com/general/docs/lit/getliterature.tsp?genericPartNumber=THS6062&fileType=pdf; ComponentLink3Description: Package Specification; ComponentLink3URL: http://www.ti.com/litv/pdf/mpds046e
footprint TI-DGN8-1760X1425TP_N (SOP, 8-Leads, Body 3x3mm, Pitch 0.65mm, Thermal Pad 1.76x1.425mm, IPC Medium Density)
footprint TI-DGN8-1760X1425TP_L (SOP, 8-Leads, Body 3x3mm, Pitch 0.65mm, Thermal Pad 1.76x1.425mm, IPC High Density)
footprint TI-DGN8-1760X1425TP_M (SOP, 8-Leads, Body 3x3mm, Pitch 0.65mm, Thermal Pad 1.76 x 1.425 mm, IPC Low Density)
pins on every part: 4 VCC- (power), 8 VCC+ (power), 9 EP
part A pins: 1 OUT1 (out), 2 IN1- (in), 3 IN1+ (in)
part B pins: 5 IN2+ (in), 6 IN2- (in), 7 OUT2 (out)

## THS6072CD
designator U?
Low-Power ADSL Differential Receiver, 9 to 32 V, 0 to 70 degC, 8-pin SOIC (D8), Green (RoHS & no Sb/Br); Manufacturer: Texas Instruments; PartNumber: THS6072CD; 2nd Harmonic(dBc): 66; 3rd Harmonic(dBc): 76; @ MHz: 1; BW @ Acl(MHz): 175; Iib(Max)(nA): 6000; Io(Typ)(mA): 85; Iq per channel(Max)(mA): 3.7; Number of Channels: 2; Settling Time (0.1%)(Typ)(ns): 43; Slew Rate(Typ)(V/us): 230; Sub Family: High Output Current Amplifier (>=50mA), High Speed Amplifier (>=50MHz), High Supply Voltage Amplifier (>=30V); THD (Fc is 1 MHz)(Typ)(dB): -79; Vio(Max)(mV): 7; Vn at Flatband(Typ)(nV/rtHz): 10; Vs(Max)(V): 32; Vs(Min)(V): 9; DatasheetVersion: SLOS290B; PackageVersion: 4040047-3/M, 06/2011; PackageReference: D8; PackageDescription: 8-Pin Plastic Small Outline, Body 4.9 x 3.9 mm, Pitch 1.27 mm; Supplier 1: Digi-Key; Supplier Part Number 1: 296-2375-5-ND; Supplier 2: Mouser; Supplier Part Number 2: 595-THS6072CD; Acl, min stable gain(V/V): 1; Eco-Plan: Green (RoHS & no Sb/Br); Mounting Technology: Surface Mount; Code_JEDEC: MS-012; ComponentLink1Description: Manufacturer URL; ComponentLink1URL: http://www.ti.com/; ComponentLink2Description: Datasheet; ComponentLink2URL: http://www.ti.com/general/docs/lit/getliterature.tsp?genericPartNumber=THS6072&fileType=pdf; ComponentLink3Description: Package Specification; ComponentLink3URL: http://www.ti.com/litv/pdf/msoi002j
footprint TI-D8_N (SOIC, 8-Leads, Body 4.9x3.9mm, Pitch 1.27mm, IPC Medium Density)
footprint TI-D8_L (SOIC, 8-Leads, Body 4.9x3.9mm, Pitch 1.27mm, IPC High Density)
footprint TI-D8_M (SOIC, 8-Leads, Body 4.9x3.9mm, Pitch 1.27mm, IPC Low Density)
pins on every part: 4 VCC- (power), 8 VCC+ (power)
part A pins: 1 OUT1 (out), 2 IN1- (in), 3 IN1+ (in)
part B pins: 5 IN2+ (in), 6 IN2- (in), 7 OUT2 (out)

## THS6072CDG4
designator U?
Low-Power ADSL Differential Receiver, 9 to 32 V, 0 to 70 degC, 8-pin SOIC (D8), Green (RoHS & no Sb/Br); Manufacturer: Texas Instruments; PartNumber: THS6072CDG4; 2nd Harmonic(dBc): 66; 3rd Harmonic(dBc): 76; @ MHz: 1; BW @ Acl(MHz): 175; Iib(Max)(nA): 6000; Io(Typ)(mA): 85; Iq per channel(Max)(mA): 3.7; Number of Channels: 2; Settling Time (0.1%)(Typ)(ns): 43; Slew Rate(Typ)(V/us): 230; Sub Family: High Output Current Amplifier (>=50mA), High Speed Amplifier (>=50MHz), High Supply Voltage Amplifier (>=30V); THD (Fc is 1 MHz)(Typ)(dB): -79; Vio(Max)(mV): 7; Vn at Flatband(Typ)(nV/rtHz): 10; Vs(Max)(V): 32; Vs(Min)(V): 9; DatasheetVersion: SLOS290B; PackageVersion: 4040047-3/M, 06/2011; PackageReference: D8; PackageDescription: 8-Pin Plastic Small Outline, Body 4.9 x 3.9 mm, Pitch 1.27 mm; Supplier 1: Digi-Key; Supplier Part Number 1: THS6072CDG4-ND; Supplier 2: Mouser; Supplier Part Number 2: 595-THS6072CDG4; Acl, min stable gain(V/V): 1; Eco-Plan: Green (RoHS & no Sb/Br); Mounting Technology: Surface Mount; Code_JEDEC: MS-012; ComponentLink1Description: Manufacturer URL; ComponentLink1URL: http://www.ti.com/; ComponentLink2Description: Datasheet; ComponentLink2URL: http://www.ti.com/general/docs/lit/getliterature.tsp?genericPartNumber=THS6072&fileType=pdf; ComponentLink3Description: Package Specification; ComponentLink3URL: http://www.ti.com/litv/pdf/msoi002j
footprint TI-D8_N (SOIC, 8-Leads, Body 4.9x3.9mm, Pitch 1.27mm, IPC Medium Density)
footprint TI-D8_L (SOIC, 8-Leads, Body 4.9x3.9mm, Pitch 1.27mm, IPC High Density)
footprint TI-D8_M (SOIC, 8-Leads, Body 4.9x3.9mm, Pitch 1.27mm, IPC Low Density)
pins on every part: 4 VCC- (power), 8 VCC+ (power)
part A pins: 1 OUT1 (out), 2 IN1- (in), 3 IN1+ (in)
part B pins: 5 IN2+ (in), 6 IN2- (in), 7 OUT2 (out)

## THS6072CDGN
designator U?
Low-Power ADSL Differential Receiver, 9 to 32 V, 0 to 70 degC, 8-pin SOIC (DGN8), Green (RoHS & no Sb/Br); Manufacturer: Texas Instruments; PartNumber: THS6072CDGN; 2nd Harmonic(dBc): 66; 3rd Harmonic(dBc): 76; @ MHz: 1; BW @ Acl(MHz): 175; Iib(Max)(nA): 8000; Io(Typ)(mA): 85; Number of Channels: 2; Settling Time (0.1%)(Typ)(ns): 43; Slew Rate(Typ)(V/us): 230; Sub Family: High Output Current Amplifier (>=50mA), High Speed Amplifier (>=50MHz), High Supply Voltage Amplifier (>=30V); THD (Fc is 1 MHz)(Typ)(dB): -79; Vio(Max)(mV): 7; Vn at Flatband(Typ)(nV/rtHz): 10; Vs(Max)(V): 32; Vs(Min)(V): 9; DatasheetVersion: SLOS290B; PackageVersion: 4073271/F, 05/2011; PackageReference: DGN8-1760X1425TP; PackageDescription: 8-pin Plastic Small Outline, Body 3 x 3 mm, Pitch 0.65 mm; Supplier 1: Digi-Key; Supplier Part Number 1: 296-24072-5-ND; Supplier 2: Newark; Supplier Part Number 2: 76C6574; Supplier 3: Mouser; Supplier Part Number 3: 595-THS6072CDGN; Acl, min stable gain(V/V): 1; Eco-Plan: Green (RoHS & no Sb/Br); Mounting Technology: Surface Mount; Code_JEDEC: MO-187; ComponentLink1Description: Manufacturer URL; ComponentLink1URL: http://www.ti.com/; ComponentLink2Description: Datasheet; ComponentLink2URL: http://www.ti.com/general/docs/lit/getliterature.tsp?genericPartNumber=THS6072&fileType=pdf; ComponentLink3Description: Package Specification; ComponentLink3URL: http://www.ti.com/litv/pdf/mpds046e
footprint TI-DGN8-1760X1425TP_N (SOP, 8-Leads, Body 3x3mm, Pitch 0.65mm, Thermal Pad 1.76x1.425mm, IPC Medium Density)
footprint TI-DGN8-1760X1425TP_L (SOP, 8-Leads, Body 3x3mm, Pitch 0.65mm, Thermal Pad 1.76x1.425mm, IPC High Density)
footprint TI-DGN8-1760X1425TP_M (SOP, 8-Leads, Body 3x3mm, Pitch 0.65mm, Thermal Pad 1.76 x 1.425 mm, IPC Low Density)
pins on every part: 4 VCC- (power), 8 VCC+ (power), 9 EP (power)
part A pins: 1 OUT1 (out), 2 IN1- (in), 3 IN1+ (in)
part B pins: 5 IN2+ (in), 6 IN2- (in), 7 OUT2 (out)

## THS6072CDGNG4
designator U?
Low-Power ADSL Differential Receiver, 9 to 32 V, 0 to 70 degC, 8-pin SOIC (DGN8), Green (RoHS & no Sb/Br); Manufacturer: Texas Instruments; PartNumber: THS6072CDGNG4; 2nd Harmonic(dBc): 66; 3rd Harmonic(dBc): 76; @ MHz: 1; BW @ Acl(MHz): 175; Iib(Max)(nA): 8000; Io(Typ)(mA): 85; Number of Channels: 2; Settling Time (0.1%)(Typ)(ns): 43; Slew Rate(Typ)(V/us): 230; Sub Family: High Output Current Amplifier (>=50mA), High Speed Amplifier (>=50MHz), High Supply Voltage Amplifier (>=30V); THD (Fc is 1 MHz)(Typ)(dB): -79; Vio(Max)(mV): 7; Vn at Flatband(Typ)(nV/rtHz): 10; Vs(Max)(V): 32; Vs(Min)(V): 9; DatasheetVersion: SLOS290B; PackageVersion: 4073271/F, 05/2011; PackageReference: DGN8-1760X1425TP; PackageDescription: 8-pin Plastic Small Outline, Body 3 x 3 mm, Pitch 0.65 mm; Supplier 1: Digi-Key; Supplier Part Number 1: THS6072CDGNG4-ND; Supplier 2: Mouser; Supplier Part Number 2: 595-THS6072CDGNG4; Acl, min stable gain(V/V): 1; Eco-Plan: Green (RoHS & no Sb/Br); Mounting Technology: Surface Mount; Code_JEDEC: MO-187; ComponentLink1Description: Manufacturer URL; ComponentLink1URL: http://www.ti.com/; ComponentLink2Description: Datasheet; ComponentLink2URL: http://www.ti.com/general/docs/lit/getliterature.tsp?genericPartNumber=THS6072&fileType=pdf; ComponentLink3Description: Package Specification; ComponentLink3URL: http://www.ti.com/litv/pdf/mpds046e
footprint TI-DGN8-1760X1425TP_N (SOP, 8-Leads, Body 3x3mm, Pitch 0.65mm, Thermal Pad 1.76x1.425mm, IPC Medium Density)
footprint TI-DGN8-1760X1425TP_L (SOP, 8-Leads, Body 3x3mm, Pitch 0.65mm, Thermal Pad 1.76x1.425mm, IPC High Density)
footprint TI-DGN8-1760X1425TP_M (SOP, 8-Leads, Body 3x3mm, Pitch 0.65mm, Thermal Pad 1.76 x 1.425 mm, IPC Low Density)
pins on every part: 4 VCC- (power), 8 VCC+ (power), 9 EP (power)
part A pins: 1 OUT1 (out), 2 IN1- (in), 3 IN1+ (in)
part B pins: 5 IN2+ (in), 6 IN2- (in), 7 OUT2 (out)

## THS6072ID
designator U?
Low-Power ADSL Differential Receiver, 9 to 32 V, -40 to 85 degC, 8-pin SOIC (D8), Green (RoHS & no Sb/Br); Manufacturer: Texas Instruments; PartNumber: THS6072ID; 2nd Harmonic(dBc): 66; 3rd Harmonic(dBc): 76; @ MHz: 1; BW @ Acl(MHz): 175; Iib(Max)(nA): 8000; Io(Typ)(mA): 85; Number of Channels: 2; Settling Time (0.1%)(Typ)(ns): 43; Slew Rate(Typ)(V/us): 230; Sub Family: High Output Current Amplifier (>=50mA), High Speed Amplifier (>=50MHz), High Supply Voltage Amplifier (>=30V); THD (Fc is 1 MHz)(Typ)(dB): -79; Vio(Max)(mV): 7; Vn at Flatband(Typ)(nV/rtHz): 10; Vs(Max)(V): 32; Vs(Min)(V): 9; DatasheetVersion: SLOS290B; PackageVersion: 4040047-3/M, 06/2011; PackageReference: D8; PackageDescription: 8-Pin Plastic Small Outline, Body 4.9 x 3.9 mm, Pitch 1.27 mm; Supplier 1: Digi-Key; Supplier Part Number 1: 296-10075-5-ND; Supplier 2: Newark; Supplier Part Number 2: 76C6578; Supplier 3: Mouser; Supplier Part Number 3: 595-THS6072ID; Acl, min stable gain(V/V): 1; Eco-Plan: Green (RoHS & no Sb/Br); Mounting Technology: Surface Mount; Code_JEDEC: MS-012; ComponentLink1Description: Manufacturer URL; ComponentLink1URL: http://www.ti.com/; ComponentLink2Description: Datasheet; ComponentLink2URL: http://www.ti.com/general/docs/lit/getliterature.tsp?genericPartNumber=THS6072&fileType=pdf; ComponentLink3Description: Package Specification; ComponentLink3URL: http://www.ti.com/litv/pdf/msoi002j
footprint TI-D8_N (SOIC, 8-Leads, Body 4.9x3.9mm, Pitch 1.27mm, IPC Medium Density)
footprint TI-D8_L (SOIC, 8-Leads, Body 4.9x3.9mm, Pitch 1.27mm, IPC High Density)
footprint TI-D8_M (SOIC, 8-Leads, Body 4.9x3.9mm, Pitch 1.27mm, IPC Low Density)
pins on every part: 4 VCC- (power), 8 VCC+ (power)
part A pins: 1 OUT1 (out), 2 IN1- (in), 3 IN1+ (in)
part B pins: 5 IN2+ (in), 6 IN2- (in), 7 OUT2 (out)

## THS6072IDG4
designator U?
Low-Power ADSL Differential Receiver, 9 to 32 V, -40 to 85 degC, 8-pin SOIC (D8), Green (RoHS & no Sb/Br); Manufacturer: Texas Instruments; PartNumber: THS6072IDG4; 2nd Harmonic(dBc): 66; 3rd Harmonic(dBc): 76; @ MHz: 1; BW @ Acl(MHz): 175; Iib(Max)(nA): 8000; Io(Typ)(mA): 85; Number of Channels: 2; Settling Time (0.1%)(Typ)(ns): 43; Slew Rate(Typ)(V/us): 230; Sub Family: High Output Current Amplifier (>=50mA), High Speed Amplifier (>=50MHz), High Supply Voltage Amplifier (>=30V); THD (Fc is 1 MHz)(Typ)(dB): -79; Vio(Max)(mV): 7; Vn at Flatband(Typ)(nV/rtHz): 10; Vs(Max)(V): 32; Vs(Min)(V): 9; DatasheetVersion: SLOS290B; PackageVersion: 4040047-3/M, 06/2011; PackageReference: D8; PackageDescription: 8-Pin Plastic Small Outline, Body 4.9 x 3.9 mm, Pitch 1.27 mm; Supplier 1: Digi-Key; Supplier Part Number 1: THS6072IDG4-ND; Supplier 2: Mouser; Supplier Part Number 2: 595-THS6072IDG4; Acl, min stable gain(V/V): 1; Eco-Plan: Green (RoHS & no Sb/Br); Mounting Technology: Surface Mount; Code_JEDEC: MS-012; ComponentLink1Description: Manufacturer URL; ComponentLink1URL: http://www.ti.com/; ComponentLink2Description: Datasheet; ComponentLink2URL: http://www.ti.com/general/docs/lit/getliterature.tsp?genericPartNumber=THS6072&fileType=pdf; ComponentLink3Description: Package Specification; ComponentLink3URL: http://www.ti.com/litv/pdf/msoi002j
footprint TI-D8_N (SOIC, 8-Leads, Body 4.9x3.9mm, Pitch 1.27mm, IPC Medium Density)
footprint TI-D8_L (SOIC, 8-Leads, Body 4.9x3.9mm, Pitch 1.27mm, IPC High Density)
footprint TI-D8_M (SOIC, 8-Leads, Body 4.9x3.9mm, Pitch 1.27mm, IPC Low Density)
pins on every part: 4 VCC- (power), 8 VCC+ (power)
part A pins: 1 OUT1 (out), 2 IN1- (in), 3 IN1+ (in)
part B pins: 5 IN2+ (in), 6 IN2- (in), 7 OUT2 (out)

## THS6072IDGNR
designator U?
Low-Power ADSL Differential Receiver, 9 to 32 V, -40 to 85 degC, 8-pin SOIC (DGN8), Green (RoHS & no Sb/Br); Manufacturer: Texas Instruments; PartNumber: THS6072IDGNR; 2nd Harmonic(dBc): 66; 3rd Harmonic(dBc): 76; @ MHz: 1; BW @ Acl(MHz): 175; Iib(Max)(nA): 8000; Io(Typ)(mA): 85; Number of Channels: 2; Settling Time (0.1%)(Typ)(ns): 43; Slew Rate(Typ)(V/us): 230; Sub Family: High Output Current Amplifier (>=50mA), High Speed Amplifier (>=50MHz), High Supply Voltage Amplifier (>=30V); THD (Fc is 1 MHz)(Typ)(dB): -79; Vio(Max)(mV): 7; Vn at Flatband(Typ)(nV/rtHz): 10; Vs(Max)(V): 32; Vs(Min)(V): 9; DatasheetVersion: SLOS290B; PackageVersion: 4073271/F, 05/2011; PackageReference: DGN8-1760X1425TP; PackageDescription: 8-pin Plastic Small Outline, Body 3 x 3 mm, Pitch 0.65 mm; Supplier 1: Digi-Key; Supplier Part Number 1: 296-10076-2-ND; Supplier 2: Digi-Key; Supplier Part Number 2: 296-10076-1-ND; Supplier 3: Digi-Key; Supplier Part Number 3: 296-10076-6-ND; Supplier 4: Mouser; Supplier Part Number 4: 595-THS6072IDGNR; Acl, min stable gain(V/V): 1; Eco-Plan: Green (RoHS & no Sb/Br); Mounting Technology: Surface Mount; Code_JEDEC: MO-187; ComponentLink1Description: Manufacturer URL; ComponentLink1URL: http://www.ti.com/; ComponentLink2Description: Datasheet; ComponentLink2URL: http://www.ti.com/general/docs/lit/getliterature.tsp?genericPartNumber=THS6072&fileType=pdf; ComponentLink3Description: Package Specification; ComponentLink3URL: http://www.ti.com/litv/pdf/mpds046e
footprint TI-DGN8-1760X1425TP_N (SOP, 8-Leads, Body 3x3mm, Pitch 0.65mm, Thermal Pad 1.76x1.425mm, IPC Medium Density)
footprint TI-DGN8-1760X1425TP_L (SOP, 8-Leads, Body 3x3mm, Pitch 0.65mm, Thermal Pad 1.76x1.425mm, IPC High Density)
footprint TI-DGN8-1760X1425TP_M (SOP, 8-Leads, Body 3x3mm, Pitch 0.65mm, Thermal Pad 1.76 x 1.425 mm, IPC Low Density)
pins on every part: 4 VCC- (power), 8 VCC+ (power), 9 EP (power)
part A pins: 1 OUT1 (out), 2 IN1- (in), 3 IN1+ (in)
part B pins: 5 IN2+ (in), 6 IN2- (in), 7 OUT2 (out)

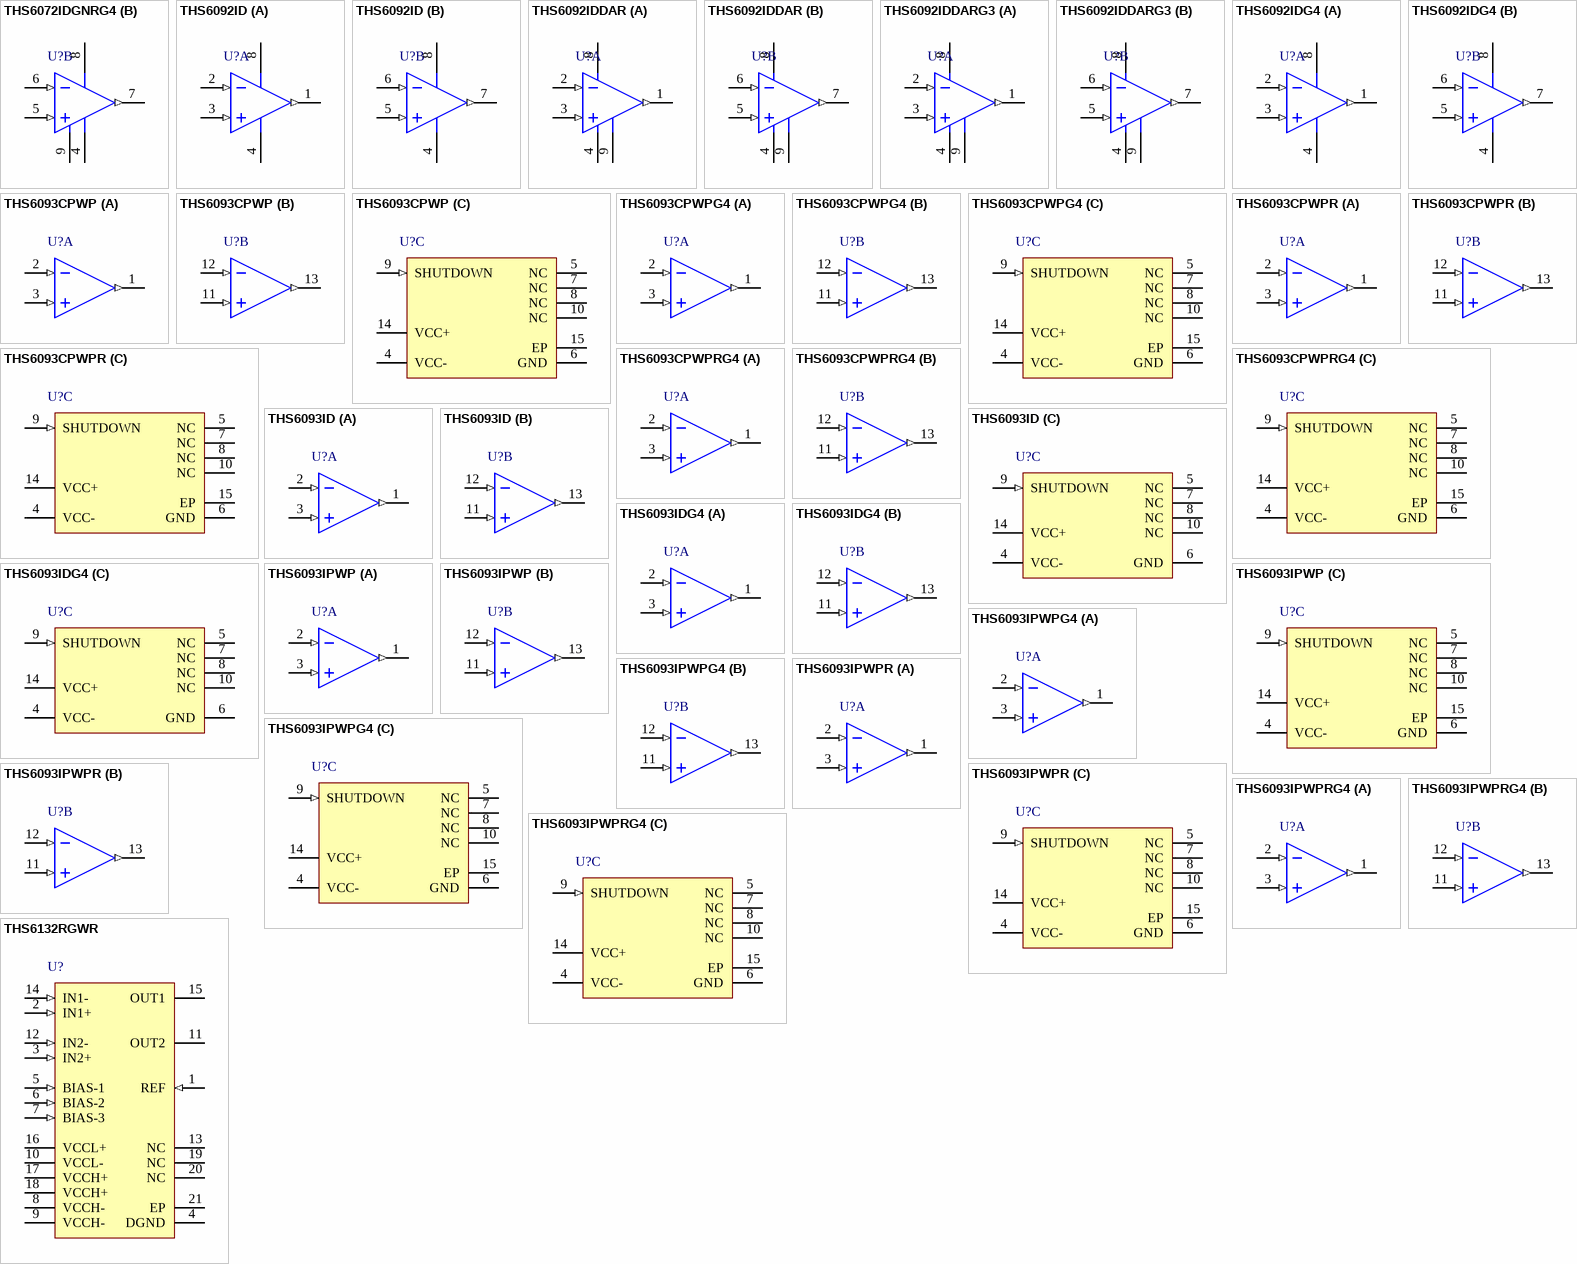
[diagram p49: symbols THS6072IDGNRG4 to THS6132RGWR]

## THS6072IDGNRG4
designator U?
Low-Power ADSL Differential Receiver, 9 to 32 V, -40 to 85 degC, 8-pin SOIC (DGN8), Green (RoHS & no Sb/Br); Manufacturer: Texas Instruments; PartNumber: THS6072IDGNRG4; 2nd Harmonic(dBc): 66; 3rd Harmonic(dBc): 76; @ MHz: 1; BW @ Acl(MHz): 175; Iib(Max)(nA): 6000; Io(Typ)(mA): 85; Iq per channel(Max)(mA): 11; Number of Channels: 2; Settling Time (0.1%)(Typ)(ns): 43; Slew Rate(Typ)(V/us): 170; Sub Family: High Output Current Amplifier (>=50mA), High Speed Amplifier (>=50MHz), High Supply Voltage Amplifier (>=30V); THD (Fc is 1 MHz)(Typ)(dB): -79; Vio(Max)(mV): 7; Vn at Flatband(Typ)(nV/rtHz): 10; Vs(Max)(V): 32; Vs(Min)(V): 9; DatasheetVersion: SLOS290B; PackageVersion: 4073271/F, 05/2011; PackageReference: DGN8-1760X1425TP; PackageDescription: 8-pin Plastic Small Outline, Body 3 x 3 mm, Pitch 0.65 mm; Supplier 1: Digi-Key; Supplier Part Number 1: THS6072IDGNRG4-ND; Supplier 2: Mouser; Supplier Part Number 2: 595-THS6072IDGNRG4; Acl, min stable gain(V/V): 1; Eco-Plan: Green (RoHS & no Sb/Br); Mounting Technology: Surface Mount; Code_JEDEC: MO-187; ComponentLink1Description: Manufacturer URL; ComponentLink1URL: http://www.ti.com/; ComponentLink2Description: Datasheet; ComponentLink2URL: http://www.ti.com/general/docs/lit/getliterature.tsp?genericPartNumber=THS6072&fileType=pdf; ComponentLink3Description: Package Specification; ComponentLink3URL: http://www.ti.com/litv/pdf/mpds046e
footprint TI-DGN8-1760X1425TP_N (SOP, 8-Leads, Body 3x3mm, Pitch 0.65mm, Thermal Pad 1.76x1.425mm, IPC Medium Density)
footprint TI-DGN8-1760X1425TP_L (SOP, 8-Leads, Body 3x3mm, Pitch 0.65mm, Thermal Pad 1.76x1.425mm, IPC High Density)
footprint TI-DGN8-1760X1425TP_M (SOP, 8-Leads, Body 3x3mm, Pitch 0.65mm, Thermal Pad 1.76 x 1.425 mm, IPC Low Density)
pins on every part: 4 VCC- (power), 8 VCC+ (power), 9 EP (power)
part A pins: 1 OUT1 (out), 2 IN1- (in), 3 IN1+ (in)
part B pins: 5 IN2+ (in), 6 IN2- (in), 7 OUT2 (out)

## THS6092ID
designator U?
275 mA, + 12 V ADSL CPE Line Driver, 5 to 14 V, -40 to 85 degC, 8-pin SOIC (D8), Green (RoHS & no Sb/Br); Manufacturer: Texas Instruments; PartNumber: THS6092ID; Acl, min stable gain(V/V): 1; BW @ Acl(MHz): 100; Iib(Max)(nA): 12000; Io(Typ)(mA): 275; Iq per channel(Max)(mA): 10.5; Number of Channels: 2; Slew Rate(Typ)(V/us): 600; Sub Family: High Output Current Amplifier (>=50mA), High Speed Amplifier (>=50MHz); THD (Fc is 1 MHz)(Typ)(dB): -72; Vio(Max)(mV): 20; Vn at Flatband(Typ)(nV/rtHz): 2.1; Vs(Max)(V): 14; Vs(Min)(V): 5; DatasheetVersion: SLOS345C; PackageVersion: 4040047-3/M, 06/2011; PackageReference: D8; PackageDescription: 8-Pin Plastic Small Outline, Body 4.9 x 3.9 mm, Pitch 1.27 mm; Supplier 1: Digi-Key; Supplier Part Number 1: 296-12319-5-ND; Supplier 2: Farnell; Supplier Part Number 2: 1755416; Supplier 3: Mouser; Supplier Part Number 3: 595-THS6092ID; Eco-Plan: Green (RoHS & no Sb/Br); Mounting Technology: Surface Mount; Code_JEDEC: MS-012; ComponentLink1Description: Manufacturer URL; ComponentLink1URL: http://www.ti.com/; ComponentLink2Description: Datasheet; ComponentLink2URL: http://www.ti.com/general/docs/lit/getliterature.tsp?genericPartNumber=THS6092&fileType=pdf; ComponentLink3Description: Package Specification; ComponentLink3URL: http://www.ti.com/litv/pdf/msoi002j
footprint TI-D8_N (SOIC, 8-Leads, Body 4.9x3.9mm, Pitch 1.27mm, IPC Medium Density)
footprint TI-D8_L (SOIC, 8-Leads, Body 4.9x3.9mm, Pitch 1.27mm, IPC High Density)
footprint TI-D8_M (SOIC, 8-Leads, Body 4.9x3.9mm, Pitch 1.27mm, IPC Low Density)
pins on every part: 4 VCC- (power), 8 VCC+ (power)
part A pins: 1 OUT D1 (out), 2 IN D1- (in), 3 IN D1+ (in)
part B pins: 5 IN D2+ (in), 6 IN D2- (in), 7 OUT D2 (out)

## THS6092IDDAR
designator U?
275 mA, + 12 V ADSL CPE Line Driver, 5 to 14 V, -40 to 85 degC, 8-pin SOP (DDA8), Green (RoHS & no Sb/Br); Manufacturer: Texas Instruments; PartNumber: THS6092IDDAR; Acl, min stable gain(V/V): 1; BW @ Acl(MHz): 100; Iib(Max)(nA): 12000; Io(Typ)(mA): 275; Iq per channel(Max)(mA): 10.5; Number of Channels: 2; Slew Rate(Typ)(V/us): 600; Sub Family: High Output Current Amplifier (>=50mA), High Speed Amplifier (>=50MHz); THD (Fc is 1 MHz)(Typ)(dB): -72; Vio(Max)(mV): 20; Vn at Flatband(Typ)(nV/rtHz): 2.1; Vs(Max)(V): 14; Vs(Min)(V): 5; DatasheetVersion: SLOS345C; PackageVersion: 4202561/F, 12/2011; PackageReference: DDA8-3025X2335TP; PackageDescription: 8-Pin PowerPAD(TM) Plastic Small Outline, Body 4.9 x 3.9 mm, Pitch 1.27 mm; Supplier 1: Digi-Key; Supplier Part Number 1: 296-12669-2-ND; Supplier 2: Digi-Key; Supplier Part Number 2: 296-12669-1-ND; Supplier 3: Digi-Key; Supplier Part Number 3: 296-12669-6-ND; Supplier 4: Newark; Supplier Part Number 4: 76C6588; Supplier 5: Mouser; Supplier Part Number 5: 595-THS6092IDDAR; Eco-Plan: Green (RoHS & no Sb/Br); Mounting Technology: Surface Mount; Code_JEDEC: MS-012; ComponentLink1Description: Manufacturer URL; ComponentLink1URL: http://www.ti.com/; ComponentLink2Description: Datasheet; ComponentLink2URL: http://www.ti.com/general/docs/lit/getliterature.tsp?genericPartNumber=THS6092&fileType=pdf; ComponentLink3Description: Package Specification; ComponentLink3URL: http://www.ti.com/litv/pdf/mpds092e
footprint TI-DDA8-3025X2335TP_N (SOP, 8-Leads, Body 4.9x3.9mm, Pitch 1.27mm, Thermal Pad 3.025x2.335mm, IPC Medium Density)
footprint TI-DDA8-3025X2335TP_L (SOP, 8-Leads, Body 4.9x3.9mm, Pitch 1.27mm, Thermal Pad 3.025x2.335mm, IPC High Density)
footprint TI-DDA8-3025X2335TP_M (SOP, 8-Leads, Body 4.9x3.9mm, Pitch 1.27mm, Thermal Pad 3.025x2.335mm, IPC Low Density)
pins on every part: 4 VCC- (power), 8 VCC+ (power), 9 EP
part A pins: 1 OUT D1 (out), 2 IN D1- (in), 3 IN D1+ (in)
part B pins: 5 IN D2+ (in), 6 IN D2- (in), 7 OUT D2 (out)